# Altium footprint library LCD Display.PcbLib: 1 footprints
Each footprint in its own frame and in the unit in brackets; x right, y up, seen from the top. Pads: shape width x height; smd on the part's side, far side on the other; paste and mask are expansions set on the pad; w line width, h text height; cw(c..) or ccw(c..) is an arc to the next point about the centre after c.
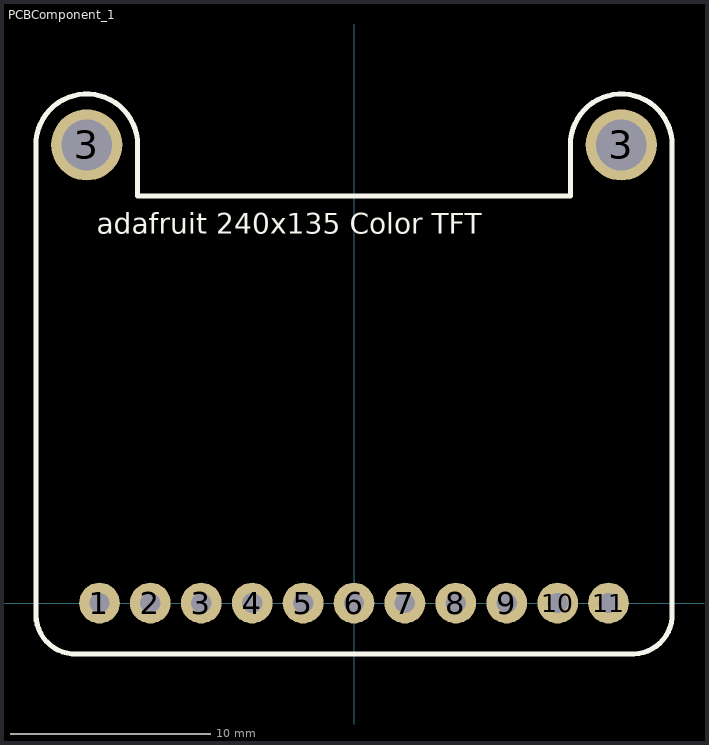
[diagram p0: the footprint, top view; thin cyan lines are the x and y axes]

## PCBComponent_1 [mil]
pads (13):
  round 80 hole 40: 1(-500,0) 2(-400,0) 3(-300,0) 4(-200,0) 5(-100,0) 6(0,0) 7(100,0) 8(200,0) 9(300,0) 10(400,0) 11(500,0)
  round 140 hole 100: 3(-525,900) 3(525,900)
Top Overlay:
  lines w10: -625,-25 ccw(c-547.5,-22.5) -545,-100 550,-100 ccw(c547.5,-22.5) 625,-20 625,900 ccw(c525,900) 425,900 425,800 -425,800 -425,900 ccw(c-525,900) -625,900 -625,-25
  text "adafruit 240x135 Color TFT" at -505,725 h40
3D body "4383 1.14in TFT Display.step": height 210, standoff 14.17, extent -626.42,-100 626.42,994.45